# EAGLE library part ADS7822U/2K5 (library ADS7822U_2K5)
Check availability <https://pricing.snapeda.com/parts/ADS7822U/2K5/Texas%20Instruments/view-part?ref=eda>
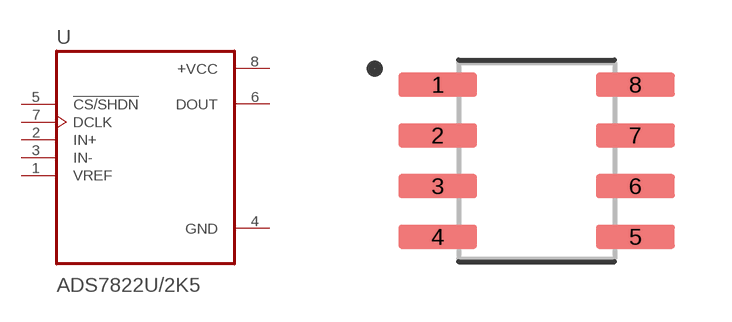
[diagram p0: symbol with the pads of SOIC127P599X175-8N; footprint SOIC127P599X175-8N]

Designator prefix U

## ADS7822U/2K5 (Availability: In Stock; Check_prices: https://www.snapeda.com/parts/ADS7822U/2K5/Texas+Instruments/view-part/?ref=eda; Description: 12-Bit, 200kSPS Micro Power Sampling Analog-To-Digital Converter; MF: Texas Instruments; MP: ADS7822U/2K5; Package: SOIC-8 Texas Instruments; Price: None; SnapEDA_Link: https://www.snapeda.com/parts/ADS7822U/2K5/Texas+Instruments/view-part/?ref=snap)  [SOIC127P599X175-8N]
1  VREF  in
2  IN+  in
3  IN-  in
4  GND  pwr
5  !CS/SHDN  in
6  DOUT  out
7  DCLK  in
8  +VCC  pwr

## Footprint SOIC127P599X175-8N (pad centres in mm)
smd 1.97 x 0.6: 1 -2.47,1.905; 2 -2.47,0.635; 3 -2.47,-0.635; 4 -2.47,-1.905; 5 2.47,-1.905; 6 2.47,-0.635; 7 2.47,0.635; 8 2.47,1.905